# Altium footprint library SolarpanelZPlus.PcbLib: 7 footprints
Each footprint in its own frame and in the unit in brackets; x right, y up, seen from the top. Pads: shape width x height; smd on the part's side, far side on the other; paste and mask are expansions set on the pad; w line width, h text height; cw(c..) or ccw(c..) is an arc to the next point about the centre after c.
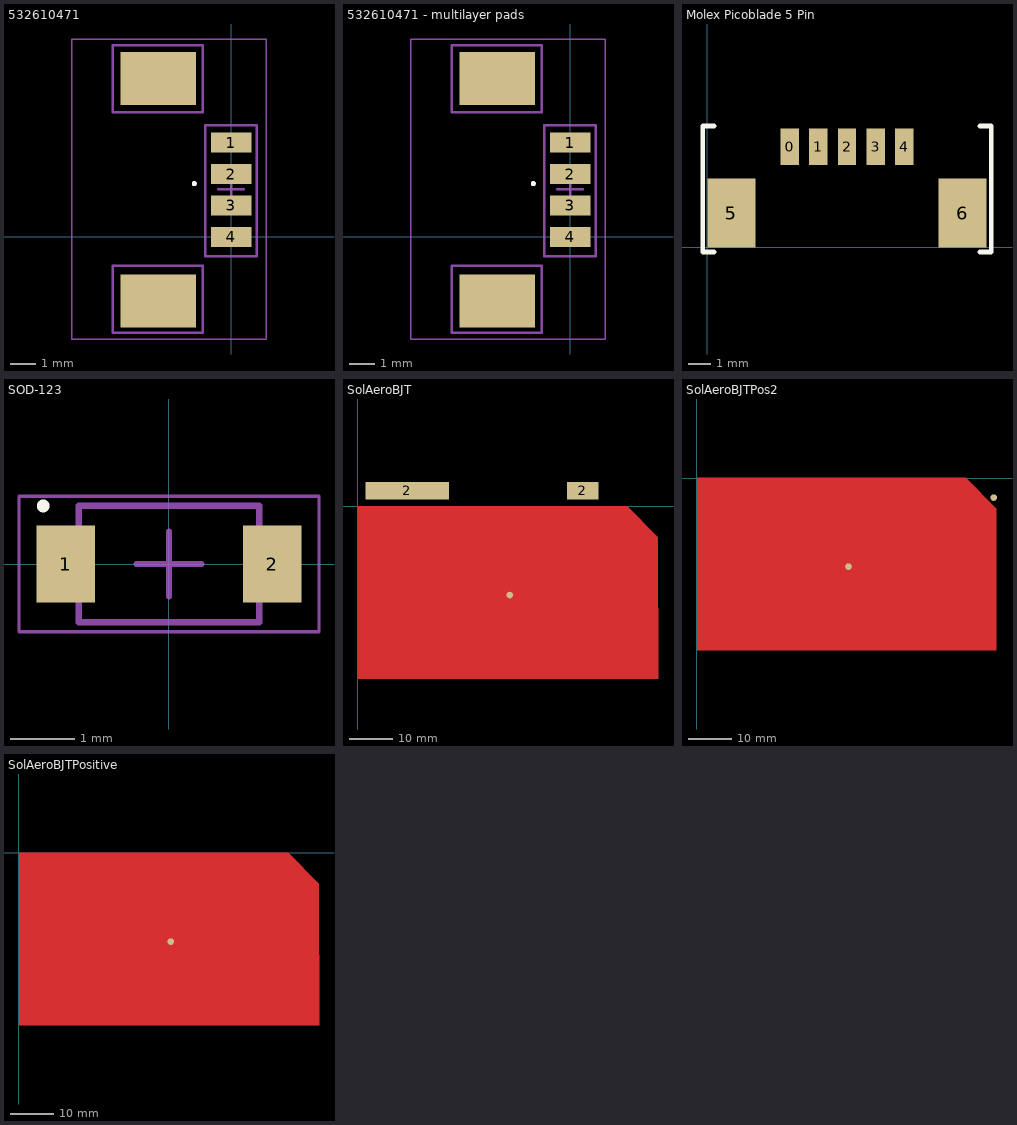
[diagram p0: the footprints below, top view; thin cyan lines are the x and y axes]

## 532610471 [mm] "Connector 4POS Molex PicoBlade"
pads (6):
  rect 1.6x0.8 smd: 1(0,3.75) 2(0,2.5) 3(0,1.25) 4(0,0)
  rect 3x2.1 smd: ""(-2.9,-2.55) ""(-2.9,6.3)
Top Overlay:
  circle w0.1: c-1.471,2.116 r0.05
Mechanical 13:
  lines w0.1: -4.717,-3.81 -1.143,-3.81 -1.143,-1.143 -4.717,-1.143 -4.717,-3.81 ; -4.717,4.953 -4.717,7.62 -1.143,7.62 -1.143,4.953 -4.717,4.953 ; -1.034,-0.762 1.016,-0.762 1.016,4.445 -1.034,4.445 -1.034,-0.762
Mechanical 15:
  lines w0.05: -6.35,-4.064 1.397,-4.064 1.397,7.874 -6.35,7.874 -6.35,-4.064
  lines w0.1: -0.509,1.893 0.491,1.893 ; -0.009,1.393 -0.009,2.393
3D body: height 0.6, standoff 0, extent -4.708,-3.81 -1.143,-1.206
3D body: height 0.6, standoff 0, extent -4.708,4.953 -1.143,7.557
3D body: height 0.6, standoff 0, extent -1.034,-0.762 1.016,4.445

## 532610471 - multilayer pads [mm] "Connector 4POS Molex PicoBlade"
pads (6):
  rect 1.6x0.8 all layers, no hole: 1(0,3.75) 2(0,2.5) 3(0,1.25) 4(0,0)
  rect 3x2.1 smd: ""(-2.9,-2.55) ""(-2.9,6.3)
Top Overlay:
  circle w0.1: c-1.471,2.116 r0.05
Mechanical 13:
  lines w0.1: -4.717,-3.81 -1.143,-3.81 -1.143,-1.143 -4.717,-1.143 -4.717,-3.81 ; -4.717,4.953 -4.717,7.62 -1.143,7.62 -1.143,4.953 -4.717,4.953 ; -1.034,-0.762 1.016,-0.762 1.016,4.445 -1.034,4.445 -1.034,-0.762
Mechanical 15:
  lines w0.05: -6.35,-4.064 1.397,-4.064 1.397,7.874 -6.35,7.874 -6.35,-4.064
  lines w0.1: -0.509,1.893 0.491,1.893 ; -0.009,1.393 -0.009,2.393
3D body: height 0.6, standoff 0, extent -4.708,-3.81 -1.143,-1.206
3D body: height 0.6, standoff 0, extent -4.708,4.953 -1.143,7.557
3D body: height 0.6, standoff 0, extent -1.034,-0.762 1.016,4.445

## Molex Picoblade 5 Pin [mm] "Molex Picoblade Header, SMT, Right Angle  53261-0571"
height 3.4
pads (7):
  rect 0.8x1.6 smd: 0(3.6,4.4) 1(4.85,4.4) 2(6.1,4.4) 3(7.35,4.4) 4(8.6,4.4)
  rect 2.1x3 smd: 5(1.05,1.5) 6(11.15,1.5)
Top Overlay:
  lines w0.2: 0.3,-0.2 -0.2,-0.2 -0.2,5.3 0.3,5.3 ; 11.9,-0.2 12.4,-0.2 12.4,5.3 11.9,5.3
3D body "532610571.stp": height 3.4, standoff 0, extent 0.4,0 11.8,5.2

## SOD-123 [mm] "SODFL, 2-Leads, Body 1.60x3.75mm, IPC Medium Density"
height 1.35
pads (2):
  rect 0.9x1.2 smd: 1(-1.6,0) 2(1.6,0)
Top Overlay:
  circle w0.1: c-1.95,0.9 r0.05
Mechanical 13:
  lines w0.1: -1.4,-0.9 -1.4,0.9 1.4,0.9 1.4,-0.9 -1.4,-0.9
Mechanical 15:
  lines w0.05: -2.325,-1.05 -2.325,1.05 2.325,1.05 2.325,-1.05 -2.325,-1.05
  lines w0.1: -0.5,0 0.5,0 ; 0,-0.5 0,0.5
3D body: height 1.35, standoff 0, extent -1.4,-0.9 1.4,0.9

## SolAeroBJT [mm] "Solar Cell"
pads (3):
  round 1.524 smd: 1(34.975,-20.388)
  rect 19.16x4 all layers, no hole: 2(11.36,3.57)
  rect 7.26x4 all layers, no hole: 2(51.78,3.57)
Top Layer:
  region: 69.066,-7.058 69.066,-7.053 61.956,0.057 61.942,0.043 0.043,0.043 0.043,-39.639 69.066,-39.639

## SolAeroBJTPos2 [mil] "Solar Cell"
pads (2):
  round 60 smd: 1(1376.95,-802.68) 2(2694.77,-176.57)
Top Layer:
  region: 2719.13,-277.86 2719.13,-277.68 2439.2,2.25 2438.66,1.71 1.71,1.71 1.71,-1560.57 2719.15,-1560.57

## SolAeroBJTPositive [mil] "Solar Cell"
pads (1):
  round 60 smd: 1(1376.95,-802.68)
Top Layer:
  region: 2719.13,-277.86 2719.13,-277.68 2439.2,2.25 2438.66,1.71 1.71,1.71 1.71,-1560.57 2719.15,-1560.57